# Altium schematic symbol library Avantes.SchLib: 2 symbols
Pins are listed as number, name and electrical type; pins without a type are passive.

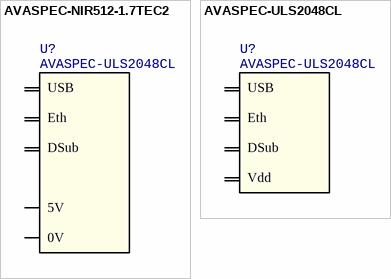
[diagram p0: symbols AVASPEC-NIR512-1.7TEC2 to AVASPEC-ULS2048CL]

## AVASPEC-NIR512-1.7TEC2
designator U?, comment AVASPEC-ULS2048CL
Spectrometer, 800 - 1100nm, 12V; Manufacturer 1: Avantes; Manufacturer Part Number 1: AVASPEC-ULS2048CL
pins: 1 USB, 2 Eth, 3 DSub, 4 5V, 5 0V

## AVASPEC-ULS2048CL
designator U?
Spectrometer, 800 - 1100nm, 12V; Manufacturer 1: Avantes; Manufacturer Part Number 1: AVASPEC-ULS2048CL
pins: 1 USB, 2 Eth, 3 DSub, 4 Vdd